# Altium footprint library PcbLib.PcbLib: 19 footprints (part 2 of 2)
Each footprint in its own frame and in the unit in brackets; x right, y up, seen from the top. Pads: shape width x height; smd on the part's side, far side on the other; paste and mask are expansions set on the pad; w line width, h text height; cw(c..) or ccw(c..) is an arc to the next point about the centre after c.
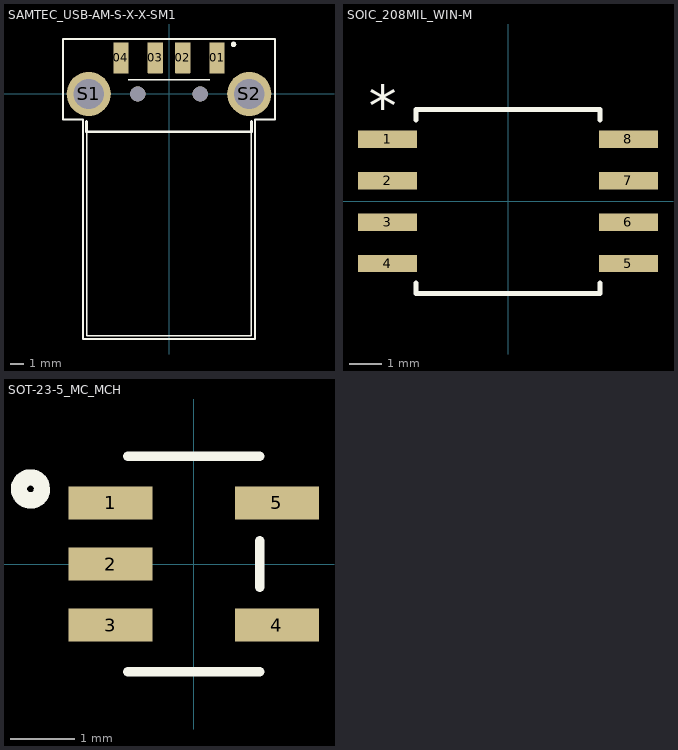
[diagram p1: the footprints below, top view; thin cyan lines are the x and y axes]

## SAMTEC_USB-AM-S-X-X-SM1 [mm]
pads (8):
  rrect4% 1.1x2.25 smd: 01(3.5,2.625) 02(1,2.625) 03(-1,2.625) 04(-3.5,2.625)
  round 3.216 hole 2.2: S1(-5.85,0) S2(5.85,0)
  round 1.1 hole 1.1 unplated: ""(-2.275,0) ""(2.275,0)
Top Overlay:
  circle w0.2: c4.699,3.607 r0.1
  circle w0.2: c4.699,3.607 r0.1
  lines w0.1: -6,-2.75 6,-2.75 ; -6,-2 -6,-17.6 6,-17.6 6,-2 ; -2.959,1.041 2.959,1.041
  lines w0.152: -7.71,-1.86 -7.71,4 7.71,4 7.71,-1.86 6.25,-1.86 6.25,-17.85 -6.25,-17.85 -6.25,-1.86 -7.71,-1.86
  lines w0.2: -6,-2 -6,-2.75 6,-2.75 6,-2
3D body "USB-AM-S-S-B-SM1.stp": height 3.1, standoff -2.79, extent -6.348,-17.696 6.348,3.454

## SOIC_208MIL_WIN-M [mm]
pads (8):
  rect 1.813x0.533 smd paste+0 mask+0: 1(-3.695,1.905) 2(-3.695,0.635) 3(-3.695,-0.635) 4(-3.695,-1.905) 5(3.695,-1.905) 6(3.695,-0.635) 7(3.695,0.635) 8(3.695,1.905)
Top Overlay:
  lines w0.152: -2.819,-2.504 -2.819,-2.819 2.819,-2.819 2.819,-2.504 ; -2.819,2.504 -2.819,2.819 2.819,2.819 2.819,2.504
  text "*" at -4.266,2.311 h1.27
3D body "SOIC_208MIL_WIN.step": height 2.16, standoff 0, extent -4.051,-2.692 4.051,2.692

## SOT-23-5_MC_MCH [mil]
pads (5):
  rect 51.56x20 smd paste+0 mask+0: 1(-51,37.4) 2(-51,0) 3(-51,-37.4) 4(51,-37.4) 5(51,37.4)
Top Overlay:
  lines w6: -40.5,-66 40.5,-66 ; -40.5,66 40.5,66 ; 40.5,-14.3 40.5,14.3
  lines w10: -93.36,48.24 ccw(c-100.07,46) -93,46
3D body "SOT-23-5_MC_MCH.step": height 57.09, standoff 0, extent -62.99,-60.98 62.99,60.98